# Altium schematic symbol library precision_shunt_regulator.SchLib: 1 symbol
Pins are listed as number, name and electrical type; pins without a type are passive.

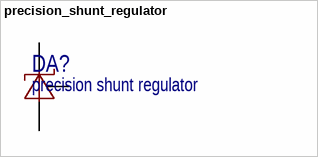
[diagram p0: symbol precision_shunt_regulator]

## precision_shunt_regulator
designator DA?, comment precision shunt regulator
Источник опорного напряжения, программируемый стабилитрон
pins: 1, 2, 3